# EAGLE library part CD74HC4067 (library BMS Lbr)
High-Speed CMOS Logic 16-Channel Analog Multiplexer/Demultiplexer
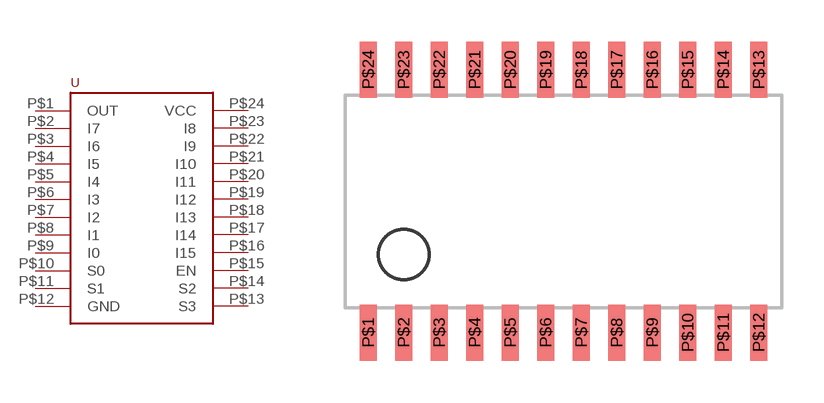
[diagram p8: symbol with the pads of 24-SOIC; footprint 24-SOIC]

Designator prefix -

## CD74HC4067  [24-SOIC]
P$1  OUT
P$2  I7
P$3  I6
P$4  I5
P$5  I4
P$6  I3
P$7  I2
P$8  I1
P$9  I0
P$10  S0
P$11  S1
P$12  GND
P$13  S3
P$14  S2
P$15  EN
P$16  I15
P$17  I14
P$18  I13
P$19  I12
P$20  I11
P$21  I10
P$22  I9
P$23  I8
P$24  VCC

## Footprint 24-SOIC (pad centres in mm)
smd 0.6 x 2: P$1 -6.985,-4.7; P$2 -5.715,-4.7; P$3 -4.445,-4.7; P$4 -3.175,-4.7; P$5 -1.905,-4.7; P$6 -0.635,-4.7; P$7 0.635,-4.7; P$8 1.905,-4.7; P$9 3.175,-4.7; P$10 4.445,-4.7; P$11 5.715,-4.7; P$12 6.985,-4.7; P$13 6.985,4.7; P$14 5.715,4.7; P$15 4.445,4.7; P$16 3.175,4.7; P$17 1.905,4.7; P$18 0.635,4.7; P$19 -0.635,4.7; P$20 -1.905,4.7; P$21 -3.175,4.7; P$22 -4.445,4.7; P$23 -5.715,4.7; P$24 -6.985,4.7